# Altium footprint library AP5056.PcbLib: 1 footprints
Each footprint in its own frame and in the unit in brackets; x right, y up, seen from the top. Pads: shape width x height; smd on the part's side, far side on the other; paste and mask are expansions set on the pad; w line width, h text height; cw(c..) or ccw(c..) is an arc to the next point about the centre after c.
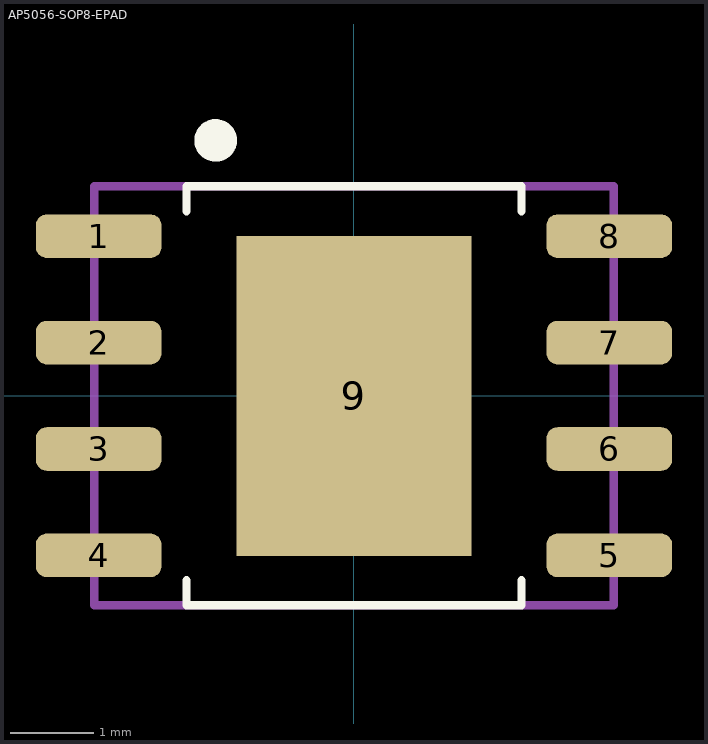
[diagram p0: the footprint, top view; thin cyan lines are the x and y axes]

## AP5056-SOP8-EPAD [mm]
pads (9):
  rrect50% 1.5x0.52 smd: 1(-3.048,1.905) 2(-3.048,0.635) 3(-3.048,-0.635) 4(-3.048,-1.905) 5(3.048,-1.905) 6(3.048,-0.635) 7(3.048,0.635) 8(3.048,1.905)
  rect 2.8x3.82 smd: 9(0,0)
Top Overlay:
  circle w0.254: c-1.651,3.048 r0.127
  lines w0.1: -2,-2.202 -2,-2.502 2,-2.502 2,-2.202 ; -2,2.202 -2,2.502 2,2.502 2,2.202
Mechanical 13:
  lines w0.1: -3.1,-2.502 -3.1,2.502 3.1,2.502 3.1,-2.502 -3.1,-2.502
Mechanical 15:
  lines w0.1: -3.1,-2.502 3.1,-2.502 3.1,2.502 -3.1,2.502 -3.1,-2.502
3D body "HSOP-8-1EP_3.9x4.9mm_P1.27mm_EP2.41x3.1mm.step": height 1.1, standoff 0, extent -3.15,-2.45 3.15,2.45